# EAGLE library part SAM1129-12 (library ublox)
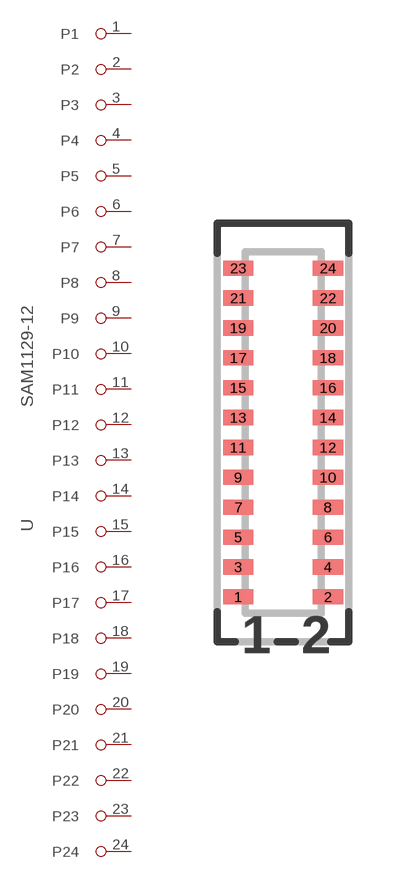
[diagram p5: symbol with the pads of SAM1129-12; footprint SAM1129-12]

Designator prefix -

## SAM1129-12  [SAM1129-12]
1  P1
2  P2
3  P3
4  P4
5  P5
6  P6
7  P7
8  P8
9  P9
10  P10
11  P11
12  P12
13  P13
14  P14
15  P15
16  P16
17  P17
18  P18
19  P19
20  P20
21  P21
22  P22
23  P23
24  P24

## Footprint SAM1129-12 (pad centres in mm)
smd 1.016 x 0.508: 1 -1.5,-5.5; 2 1.5,-5.5; 3 -1.5,-4.5; 4 1.5,-4.5; 5 -1.5,-3.5; 6 1.5,-3.5; 7 -1.5,-2.5; 8 1.5,-2.5; 9 -1.5,-1.5; 10 1.5,-1.5; 11 -1.5,-0.5; 12 1.5,-0.5; 13 -1.5,0.5; 14 1.5,0.5; 15 -1.5,1.5; 16 1.5,1.5; 17 -1.5,2.5; 18 1.5,2.5; 19 -1.5,3.5; 20 1.5,3.5; 21 -1.5,4.5; 22 1.5,4.5; 23 -1.5,5.5; 24 1.5,5.5